# Altium footprint library UBCSolar.PCBLIB: 94 footprints (part 4 of 6)
Each footprint in its own frame and in the unit in brackets; x right, y up, seen from the top. Pads: shape width x height; smd on the part's side, far side on the other; paste and mask are expansions set on the pad; w line width, h text height; cw(c..) or ccw(c..) is an arc to the next point about the centre after c.
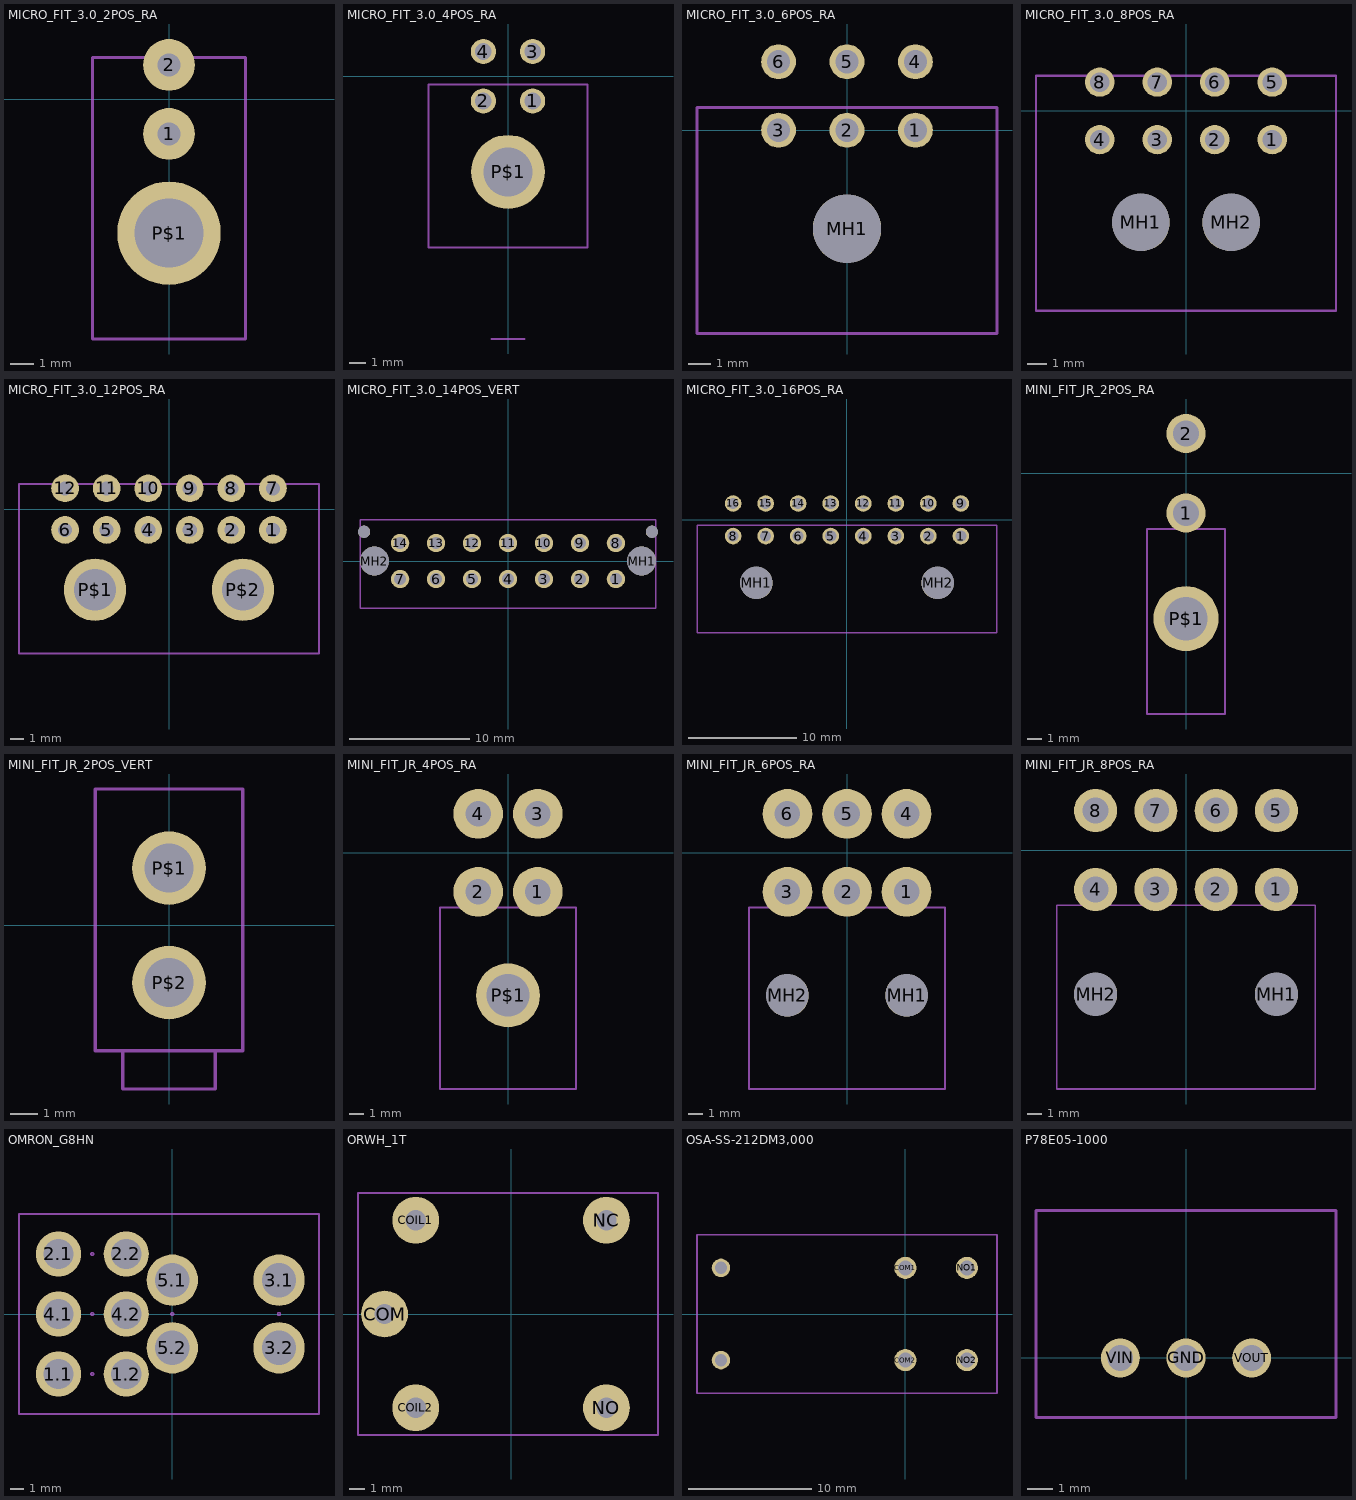
[diagram p3: the footprints below, top view; thin cyan lines are the x and y axes]

## MICRO_FIT_3.0_2POS_RA [mm]
pads (3):
  round 2.25 / inner round 1.524 / far side round 2.25 hole 1: 1(0,-1.5) 2(0,1.5)
  round 4.5 / inner round 1.524 / far side round 4.5 hole 3: P$1(0,-5.82)
Top Assembly:
  lines w0.127: -3.324,-10.42 3.324,-10.42 3.324,1.82 -3.324,1.82 -3.324,-10.42

## MICRO_FIT_3.0_4POS_RA [mm]
pads (5):
  round 1.53 / inner round 1.524 / far side round 1.53 hole 1.02: 1(1.5,-1.5) 2(-1.5,-1.5) 3(1.5,1.5) 4(-1.5,1.5)
  round 4.5 / inner round 1.524 / far side round 4.5 hole 3: P$1(0,-5.82)
Top Assembly:
  lines w0.127: -1,-15.98 1,-15.98 ; -4.825,-10.42 4.825,-10.42 4.825,-0.51 -4.825,-0.51 -4.825,-10.42

## MICRO_FIT_3.0_6POS_RA [mm]
pads (7):
  round 1.53 / inner round 1.524 / far side round 1.53 hole 1.02: 1(3,0) 2(0,0) 3(-3,0) 4(3,3) 5(0,3) 6(-3,3)
  round 3 hole 3 unplated: MH1(0,-4.32)
Top Assembly:
  lines w0.127: -6.575,-8.92 6.575,-8.92 ; -6.575,-8.92 -6.575,0.99 6.575,0.99 6.575,-8.92 ; -6.575,-8.92 6.575,-8.92

## MICRO_FIT_3.0_8POS_RA [mm]
pads (10):
  round 1.53 / inner round 1.524 / far side round 1.53 hole 1.02: 1(4.5,-1.5) 2(1.5,-1.5) 3(-1.5,-1.5) 4(-4.5,-1.5) 5(4.5,1.5) 6(1.5,1.5) 7(-1.5,1.5) 8(-4.5,1.5)
  round 3 hole 3 unplated: MH1(-2.35,-5.82) MH2(2.35,-5.82)
Assembly Top:
  lines w0.127: -7.825,-10.42 7.825,-10.42 7.825,1.82 -7.825,1.82 -7.825,-10.42
Top Assembly:
  lines w0.127: -7.825,-10.42 7.825,-10.42 7.825,1.82 -7.825,1.82 -7.825,-10.42

## MICRO_FIT_3.0_12POS_RA [mm]
pads (14):
  round 2 / inner round 1.524 / far side round 2 hole 1.02: 1(7.5,-1.5) 2(4.5,-1.5) 3(1.5,-1.5) 4(-1.5,-1.5) 5(-4.5,-1.5) 6(-7.5,-1.5) 7(7.5,1.5) 8(4.5,1.5) 9(1.5,1.5) 10(-1.5,1.5) 11(-4.5,1.5) 12(-7.5,1.5)
  round 4.5 / inner round 1.524 / far side round 4.5 hole 3: P$1(-5.34,-5.82) P$2(5.34,-5.82)
Top Assembly:
  lines w0.127: -10.825,-10.42 10.825,-10.42 10.825,1.82 -10.825,1.82 -10.825,-10.42

## MICRO_FIT_3.0_14POS_VERT [mm]
pads (18):
  round 1.53 / inner round 1.524 / far side round 1.53 hole 1.02: 1(9,-1.5) 2(6,-1.5) 3(3,-1.5) 4(0,-1.5) 5(-3,-1.5) 6(-6,-1.5) 7(-9,-1.5) 8(9,1.5) 9(6,1.5) 10(3,1.5) 11(0,1.5) 12(-3,1.5) 13(-6,1.5) 14(-9,1.5)
  round 2.41 hole 2.41 unplated: MH1(11.15,0) MH2(-11.15,0)
  round 1.02 hole 1.02 unplated: MH3(-12,2.44) MH4(12,2.44)
Top Assembly:
  lines w0.127: -12.325,-3.93 12.325,-3.93 12.325,3.44 -12.325,3.44 -12.325,-3.93

## MICRO_FIT_3.0_16POS_RA [mm]
pads (18):
  round 1.53 / inner round 1.524 / far side round 1.53 hole 1.02: 1(10.5,-1.5) 2(7.5,-1.5) 3(4.5,-1.5) 4(1.5,-1.5) 5(-1.5,-1.5) 6(-4.5,-1.5) 7(-7.5,-1.5) 8(-10.5,-1.5) 9(10.5,1.5) 10(7.5,1.5) 11(4.5,1.5) 12(1.5,1.5) 13(-1.5,1.5) 14(-4.5,1.5) 15(-7.5,1.5) 16(-10.5,1.5)
  round 3 hole 3 unplated: MH1(-8.35,-5.82) MH2(8.35,-5.82)
Top Assembly:
  lines w0.127: -13.825,-10.42 13.825,-10.42 13.825,-0.51 -13.825,-0.51 -13.825,-10.42

## MINI_FIT_JR_2POS_RA [mm]
pads (3):
  round 2.7 / inner round 1.524 / far side round 2.7 hole 1.8: 1(0,-2.75) 2(0,2.75)
  round 4.5 / inner round 1.524 / far side round 4.5 hole 3: P$1(0,-10.05)
Top Assembly:
  lines w0.127: -2.7,-16.65 2.7,-16.65 2.7,-3.85 -2.7,-3.85 -2.7,-16.65

## MINI_FIT_JR_2POS_VERT [mil]
pads (2):
  round 106.31 / inner round 60 / far side round 106.31 hole 70.87: P$1(0,82.68) P$2(0,-82.68)
Top Assembly:
  lines w5: -66.93,-181.1 66.93,-181.1 ; -66.93,-181.1 -106.3,-181.1 -106.3,196.85 106.3,196.85 106.3,-181.1 66.93,-181.1 ; -66.93,-181.1 -66.93,-236.22 66.93,-236.22 66.93,-181.1

## MINI_FIT_JR_4POS_RA [mm]
pads (5):
  round 3.5 / inner round 1.524 / far side round 3.5 hole 1.8: 1(2.1,-2.75) 2(-2.1,-2.75) 3(2.1,2.75) 4(-2.1,2.75)
  round 4.5 / inner round 1.524 / far side round 4.5 hole 3: P$1(0,-10.05)
Top Assembly:
  lines w0.127: -4.8,-16.65 4.8,-16.65 4.8,-3.85 -4.8,-3.85 -4.8,-16.65

## MINI_FIT_JR_6POS_RA [mm]
pads (8):
  round 3.5 / inner round 1.524 / far side round 3.5 hole 1.8: 1(4.2,-2.75) 2(0,-2.75) 3(-4.2,-2.75) 4(4.2,2.75) 5(0,2.75) 6(-4.2,2.75)
  round 3 hole 3 unplated: MH1(4.2,-10.05) MH2(-4.2,-10.05)
Top Assembly:
  lines w0.127: -6.9,-16.65 6.9,-16.65 6.9,-3.85 -6.9,-3.85 -6.9,-16.65

## MINI_FIT_JR_8POS_RA [mm]
pads (10):
  round 3 / inner round 1.524 / far side round 3 hole 1.8: 1(6.3,-2.75) 2(2.1,-2.75) 3(-2.1,-2.75) 4(-6.3,-2.75) 5(6.3,2.75) 6(2.1,2.75) 7(-2.1,2.75) 8(-6.3,2.75)
  round 3 hole 3 unplated: MH1(6.3,-10.05) MH2(-6.3,-10.05)
Top Assembly:
  lines w0.127: -9,-16.65 9,-16.65 9,-3.85 -9,-3.85 -9,-16.65

## OMRON_G8HN [mm]
pads (10):
  round 3.39 / inner round 1.524 / far side round 3.39 hole 2.26: 1.1(-8.54,-4.5) 1.2(-3.46,-4.5) 2.1(-8.54,4.5) 2.2(-3.46,4.5) 4.1(-8.54,0) 4.2(-3.46,0)
  round 3.855 / inner round 1.524 / far side round 3.855 hole 2.57: 3.1(8,2.54) 3.2(8,-2.54) 5.1(0,2.54) 5.2(0,-2.54)
Top Assembly:
  circle w0.127: c-6,4.5 r0.1
  circle w0.127: c-6,0 r0.1
  circle w0.127: c-6,-4.5 r0.1
  circle w0.127: c0,0 r0.1
  circle w0.127: c8,0 r0.1
  lines w0.127: -11.5,-7.5 11,-7.5 11,7.5 -11.5,7.5 -11.5,-7.5

## ORWH_1T [mm]
pads (5):
  round 3 / inner round 1.524 / far side round 3 hole 1.3: COIL1(-6.1,6) COIL2(-6.1,-6) COM(-8.1,0) NC(6.1,6) NO(6.1,-6)
Top Assembly:
  lines w0.127: -9.8,-7.75 9.4,-7.75 9.4,7.75 -9.8,7.75 -9.8,-7.75

## OSA-SS-212DM3,000 [mm]
pads (6):
  round 1.508 / inner round 1.524 / far side round 1.508 hole 1: COIL1(-15,3.75) COIL2(-15,-3.75)
  round 1.8 / inner round 1.524 / far side round 1.8 hole 1.2: COM1(0,3.75) COM2(0,-3.75) NO1(5,3.75) NO2(5,-3.75)
Top Assembly:
  lines w0.127: -16.95,-6.45 7.45,-6.45 7.45,6.45 -16.95,6.45 -16.95,-6.45

## P78E05-1000 [mm]
pads (3):
  round 1.508 / inner round 1.524 / far side round 1.508 hole 1: GND(0,0) VIN(-2.54,0) VOUT(2.54,0)
Top Assembly:
  lines w0.127: -5.8,-2.3 5.8,-2.3 5.8,5.7 -5.8,5.7 -5.8,-2.3